# Altium footprint library IDTILab.PcbLib: 105 footprints (part 3 of 7)
Each footprint in its own frame and in the unit in brackets; x right, y up, seen from the top. Pads: shape width x height; smd on the part's side, far side on the other; paste and mask are expansions set on the pad; w line width, h text height; cw(c..) or ccw(c..) is an arc to the next point about the centre after c.
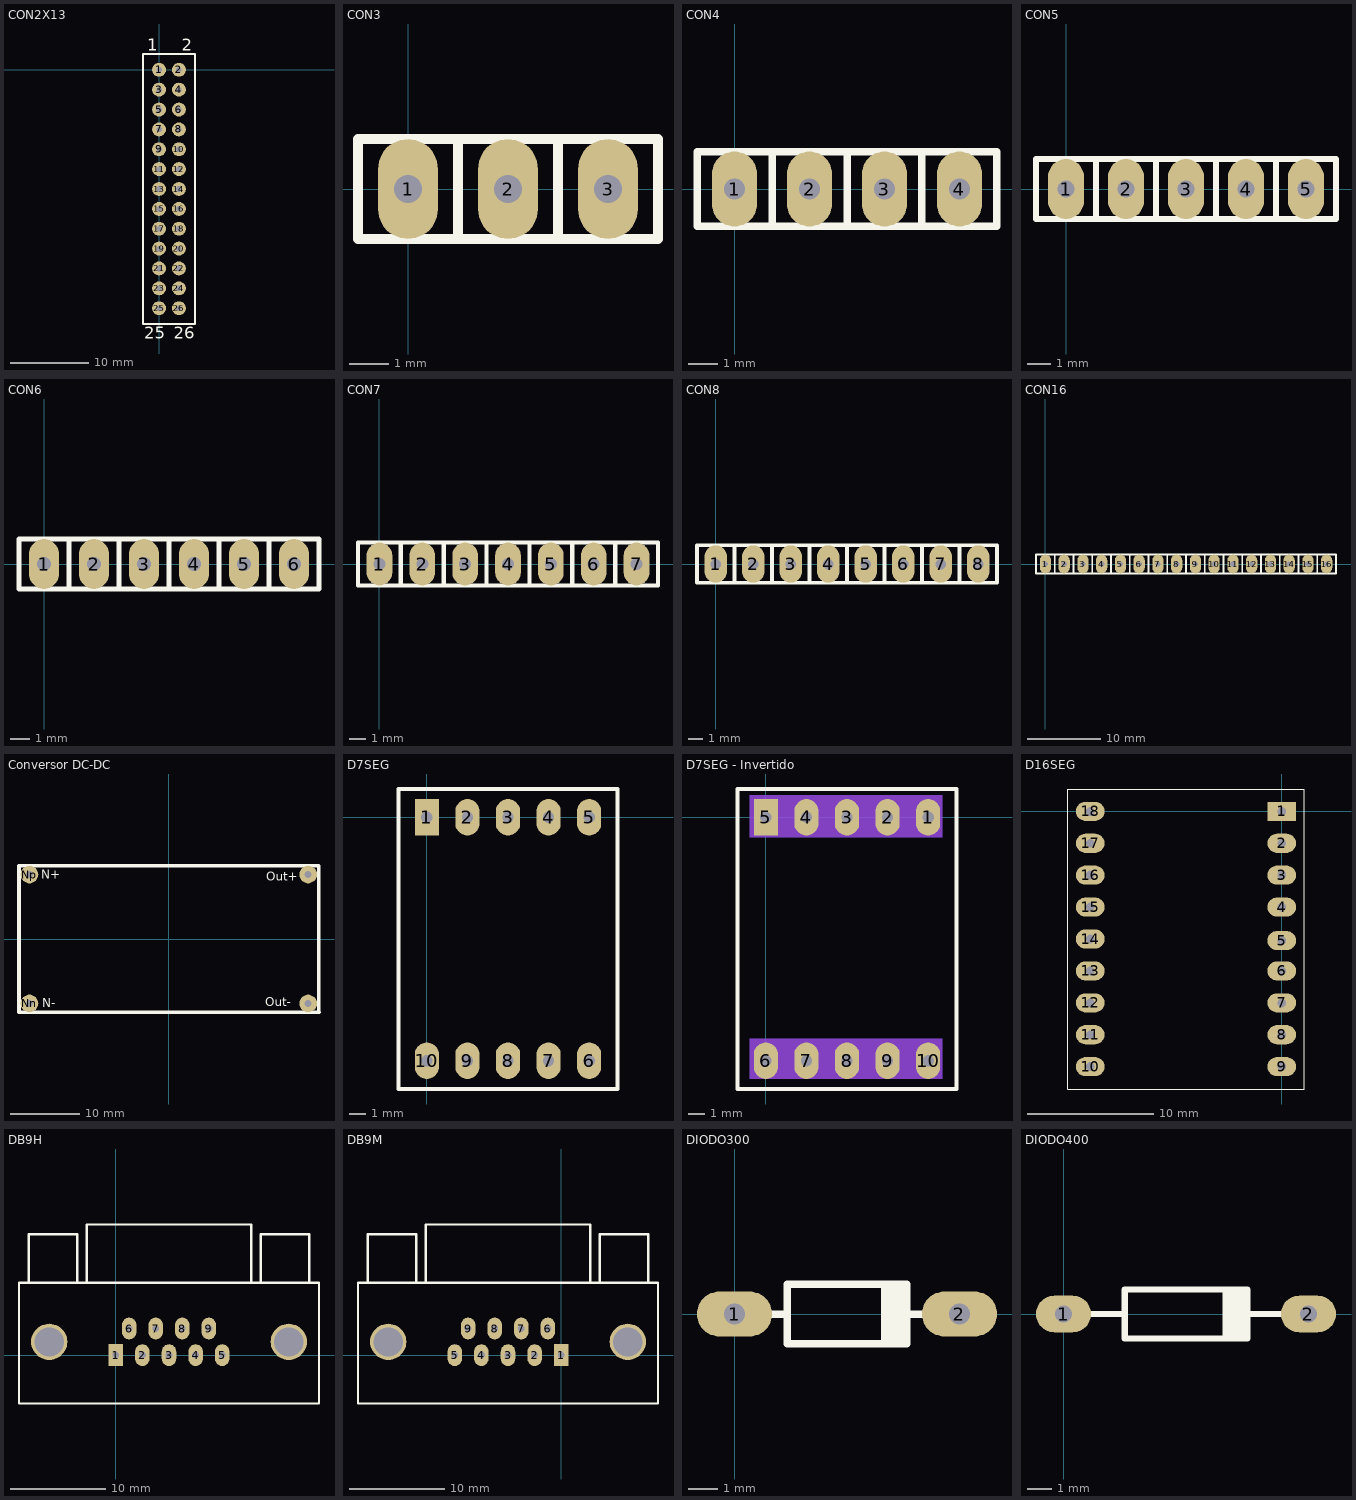
[diagram p2: the footprints below, top view; thin cyan lines are the x and y axes]

## CON2X13 [mil]
pads (26):
  round 70 hole 28: 1(0,0) 2(100,0) 3(0,-100) 4(100,-100) 5(0,-200) 6(100,-200) 7(0,-300) 8(100,-300) 9(0,-400) 10(100,-400) 11(0,-500) 12(100,-500) 13(0,-600) 14(100,-600) 15(0,-700) 16(100,-700) 17(0,-800) 18(100,-800) 19(0,-900) 20(100,-900) 21(0,-1000) 22(100,-1000) 23(0,-1100) 24(100,-1100) 25(0,-1200) 26(100,-1200)
Top Overlay:
  lines w10: -80,-1280 180,-1280 180,80 -80,80 -80,-1280
  text "26" at 75,-1355 h60
  text "25" at -75,-1355 h60
  text "2" at 115,95 h60
  text "1" at -60,95 h60

## CON3 [mil]
pads (3):
  oval 60x100 hole 28: 1(0,0) 2(100,0) 3(200,0)
Top Overlay:
  lines w10: 50,-50 50,50 ; 150,-50 150,50 ; -50,-50 -50,0 -50,50 250,50 250,-50 -50,-50

## CON4 [mil]
pads (4):
  oval 60x100 hole 28: 1(0,0) 2(100,0) 3(200,0) 4(300,0)
Top Overlay:
  lines w10: 50,-50 50,50 ; 150,-50 150,50 ; 250,-50 250,50 ; -50,-50 350,-50 350,50 -50,50 -50,0 -50,-50

## CON5 [mil]
pads (5):
  oval 60x100 hole 28: 1(0,0) 2(100,0) 3(200,0) 4(300,0) 5(400,0)
Top Overlay:
  lines w10: 50,-50 50,50 ; 150,-50 150,50 ; 250,-50 250,50 ; 350,-50 450,-50 450,50 350,50 ; 350,-50 -50,-50 -50,0 -50,50 350,50 ; 350,-50 350,50

## CON6 [mil]
pads (6):
  oval 60x100 hole 28: 1(0,0) 2(100,0) 3(200,0) 4(300,0) 5(400,0) 6(500,0)
Top Overlay:
  lines w10: 50,-50 50,50 ; 150,-50 150,50 ; 250,-50 250,50 ; 350,-50 350,50 ; 350,-50 -50,-50 -50,0 -50,50 350,50 ; 350,-50 450,-50 ; 350,50 450,50 ; 450,-50 550,-50 550,50 450,50 ; 450,-50 450,50

## CON7 [mil]
pads (7):
  oval 60x100 hole 28: 1(0,0) 2(100,0) 3(200,0) 4(300,0) 5(400,0) 6(500,0) 7(600,0)
Top Overlay:
  lines w10: 50,-50 50,50 ; 150,-50 150,50 ; 250,-50 250,50 ; 350,-50 450,-50 ; 350,-50 -50,-50 -50,0 -50,50 350,50 ; 350,-50 350,50 ; 350,50 450,50 ; 450,-50 450,50 ; 450,-50 550,-50 ; 450,50 550,50 ; 550,-50 650,-50 650,50 550,50 ; 550,-50 550,50

## CON8 [mil]
pads (8):
  oval 60x100 hole 28: 1(0,0) 2(100,0) 3(200,0) 4(300,0) 5(400,0) 6(500,0) 7(600,0) 8(700,0)
Top Overlay:
  lines w10: 50,-50 50,50 ; 150,-50 150,50 ; 250,-50 250,50 ; 350,-50 350,50 ; 350,-50 -50,-50 -50,0 -50,50 350,50 ; 350,-50 450,-50 ; 350,50 450,50 ; 450,-50 550,-50 ; 450,-50 450,50 ; 450,50 550,50 ; 550,-50 550,50 ; 550,-50 650,-50 ; 550,50 650,50 ; 650,-50 750,-50 750,50 650,50 ; 650,-50 650,50

## CON16 [mil]
pads (16):
  oval 60x100 hole 28: 1(0,0) 2(100,0) 3(200,0) 4(300,0) 5(400,0) 6(500,0) 7(600,0) 8(700,0) 9(800,0) 10(900,0) 11(1000,0) 12(1100,0) 13(1200,0) 14(1300,0) 15(1400,0) 16(1500,0)
Top Overlay:
  lines w10: 50,-50 50,50 ; 150,-50 150,50 ; 250,-50 250,50 ; 850,-50 850,50 ; 950,-50 950,50 ; 1050,-50 1050,50 ; 350,-50 450,-50 ; 350,-50 -50,-50 -50,0 -50,50 350,50 ; 350,-50 350,50 ; 350,50 450,50 ; 450,-50 450,50 ; 450,-50 550,-50 ; 450,50 550,50 ; 550,-50 650,-50 ; 550,-50 550,50 ; 550,50 650,50 ; 650,-50 650,50 ; 650,-50 750,-50 ; 650,50 750,50 ; 750,-50 1150,-50 ; 750,-50 750,0 750,50 ; 750,-50 750,50 ; 750,50 1150,50 ; 1150,-50 1150,50 ; 1150,-50 1250,-50 ; 1150,50 1250,50 ; 1250,-50 1350,-50 ; 1250,-50 1250,50 ; 1250,50 1350,50 ; 1350,-50 1350,50 ; 1350,-50 1450,-50 ; 1350,50 1450,50 ; 1450,-50 1550,-50 1550,50 1450,50 ; 1450,-50 1450,50

## Conversor DC-DC [mil]
pads (4):
  round 100 hole 40: Nn(-787,-364) Np(-787,364) Outn(787,-364) Outp(787,364)
Top Overlay:
  lines w20: 846,-413 846,413 -846,413 -846,-413 848,-413
  text "Out+" at 550,330 h50
  text "Out-" at 545,-380 h50
  text "N+" at -720,340 h50
  text "N-" at -715,-385 h50

## D7SEG [mil]
pads (10):
  rect 60x90 hole 28: 1(0,0)
  oval 60x90 hole 28: 2(100,0) 3(200,0) 4(300,0) 5(400,0) 6(400,-600) 7(300,-600) 8(200,-600) 9(100,-600) 10(0,-600)
Top Overlay:
  lines w10: -70,-670 470,-670 470,70 -70,70 -70,-670

## D7SEG - Invertido [mil] "Botom layer bloqueada"
pads (10):
  oval 60x90 hole 28: 1(400,0) 2(300,0) 3(200,0) 4(100,0) 6(0,-600) 7(100,-600) 8(200,-600) 9(300,-600) 10(400,-600)
  rect 60x90 hole 28: 5(0,0)
Bottom Layer keep-out:
  rectangle: -40,-645 435,-545
  rectangle: -40,-50 435,55
Top Overlay:
  lines w10: -70,-670 -70,70 470,70 470,-670 -70,-670

## D16SEG [mil]
pads (18):
  rect 90x60 hole 28: 1(0,0)
  oval 90x60 hole 28: 2(0,-100) 3(0,-200) 4(0,-300) 5(0,-405) 6(0,-500) 7(0,-600) 8(0,-700) 9(0,-800) 10(-600,-800) 11(-600,-700) 12(-600,-600) 13(-600,-500) 14(-600,-400) 15(-600,-300) 16(-600,-200) 17(-600,-100) 18(-600,0)
Top Overlay:
  lines w1: -670,-870 70,-870 70,70 -670,70 -670,-870

## DB9H [mil]
pads (11):
  rect 60x90 hole 28: 1(0,0)
  oval 60x90 hole 28: 2(110,0) 3(220,0) 4(330,0) 5(440,0) 6(55,110) 7(165,110) 8(275,110) 9(385,110)
  round 150 hole 120: ""(-275,55) ""(715,55)
Top Overlay:
  lines w10: -360,300 -360,500 -160,500 -160,300 ; -120,300 -120,540 560,540 560,300 ; 600,300 600,500 800,500 800,300 ; -400,-200 -400,300 840,300 840,-200 -400,-200

## DB9M [mil]
pads (11):
  rect 60x90 hole 28: 1(0,0)
  oval 60x90 hole 28: 2(-110,0) 3(-220,0) 4(-330,0) 5(-440,0) 6(-55,110) 7(-165,110) 8(-275,110) 9(-385,110)
  round 150 hole 120: ""(-715,55) ""(275,55)
Top Overlay:
  lines w10: -800,300 -800,500 -600,500 -600,300 ; -560,300 -560,540 120,540 120,300 ; 160,300 160,500 360,500 360,300 ; -840,-200 -840,300 400,300 400,-200 -840,-200

## DIODO300 [mil]
pads (2):
  oval 100x60 hole 28: 1(0,0) 2(300,0)
Top Overlay:
  rectangle: 195,-40 225,40
  lines w10: 0,0 70,0 ; 300,0 230,0 ; 70,0 70,40 230,40 230,0 ; 70,0 70,-40 230,-40 230,0

## DIODO400 [mil]
pads (2):
  oval 90x60 hole 28: 1(0,0) 2(400,0)
Top Overlay:
  rectangle: 260,-40 300,40
  lines w10: 0,0 100,0 ; 400,0 300,0 ; 100,0 100,-30 100,-40 110,-40 300,-40 300,0 ; 100,0 100,40 300,40 300,0